# Altium footprint library CAP-ELEC-10X20.PcbLib: 1 footprints
Each footprint in its own frame and in the unit in brackets; x right, y up, seen from the top. Pads: shape width x height; smd on the part's side, far side on the other; paste and mask are expansions set on the pad; w line width, h text height; cw(c..) or ccw(c..) is an arc to the next point about the centre after c.
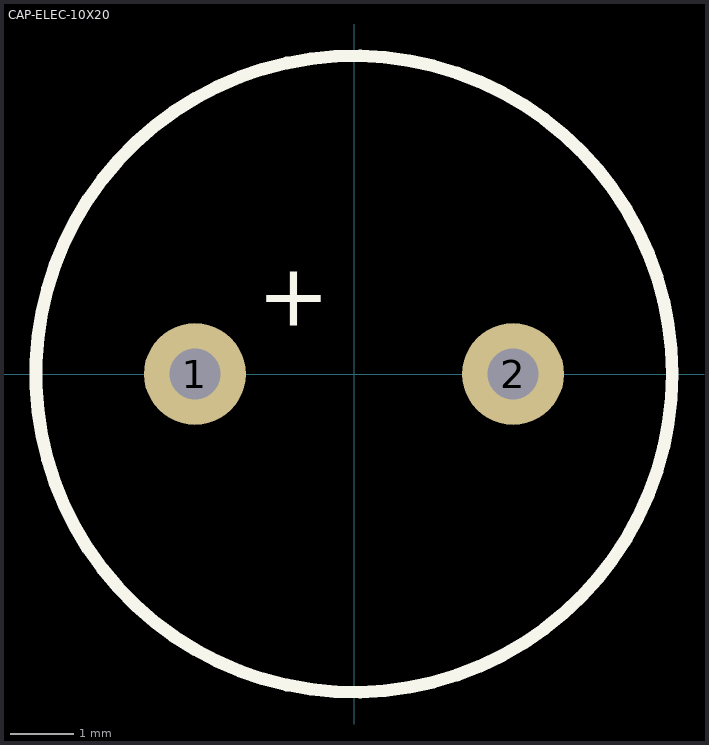
[diagram p0: the footprint, top view; thin cyan lines are the x and y axes]

## CAP-ELEC-10X20 [mm] "CAPACITOR ELECTROLITICO 10 X 20"
pads (2):
  round 1.6 hole 0.8: 1(-2.5,0) 2(2.5,0)
Top Overlay:
  circle w0.2: c0,0 r5
  text "+" at -1.524,0.762 h1
3D body "CAP-ELEC-10X20.step": height 20, standoff -3, extent -5,-4.999 5,5